# Altium footprint library General.PcbLib: 19 footprints (part 2 of 2)
Each footprint in its own frame and in the unit in brackets; x right, y up, seen from the top. Pads: shape width x height; smd on the part's side, far side on the other; paste and mask are expansions set on the pad; w line width, h text height; cw(c..) or ccw(c..) is an arc to the next point about the centre after c.
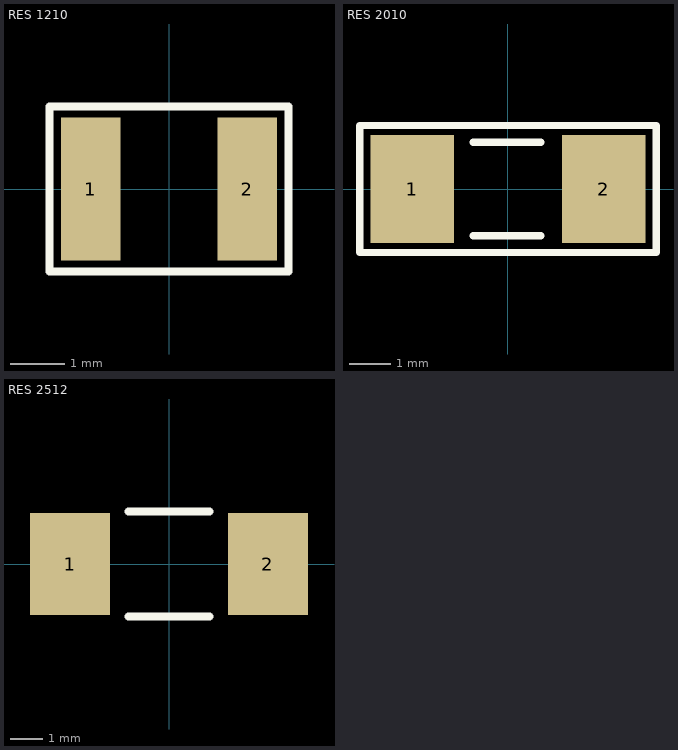
[diagram p1: the footprints below, top view; thin cyan lines are the x and y axes]

## RES 1210 [mm] "Chip Capacitor, 2-Leads, Body 3.20x2.50mm, IPC Medium Density"
height 1.7
pads (2):
  rect 1.1x2.65 smd: 1(-1.45,0) 2(1.45,0)
Top Overlay:
  lines w0.152: -2.21,-1.524 -2.21,1.524 2.21,1.524 2.21,-1.524 -2.21,-1.524
Mechanical 13:
  lines w0.1: -1.6,-1.25 -1.6,1.25 ; 1.6,-1.25 1.6,1.25
3D body "R1210.step": height 0.55, standoff 0, extent -1.55,-1.3 1.55,1.3

## RES 2010 [mm]
pads (2):
  rect 2x2.6 smd: 1(-2.3,0) 2(2.3,0)
Top Overlay:
  lines w0.178: -0.838,-1.118 0.787,-1.118 ; -0.838,1.118 0.787,1.118 ; -3.556,-1.524 3.556,-1.524 3.556,1.524 -3.556,1.524 -3.556,-1.524
3D body "Tro 2010.step": height 0.59, standoff -0.01, extent -2.5,-1.25 2.5,1.25

## RES 2512 [mm]
pads (2):
  rect 2.5x3.2 smd: 1(-3.1,0) 2(3.1,0)
Top Overlay:
  lines w0.254: -1.27,-1.651 1.27,-1.651 ; -1.27,1.651 1.27,1.651
3D body "Resistor SMD 2512.STEP": height 0.82, standoff 0.22, extent -3.131,-1.575 3.169,1.575